# Altium schematic symbol library czc.SchLib: 62 symbols
Pins are listed as number, name and electrical type; pins without a type are passive.

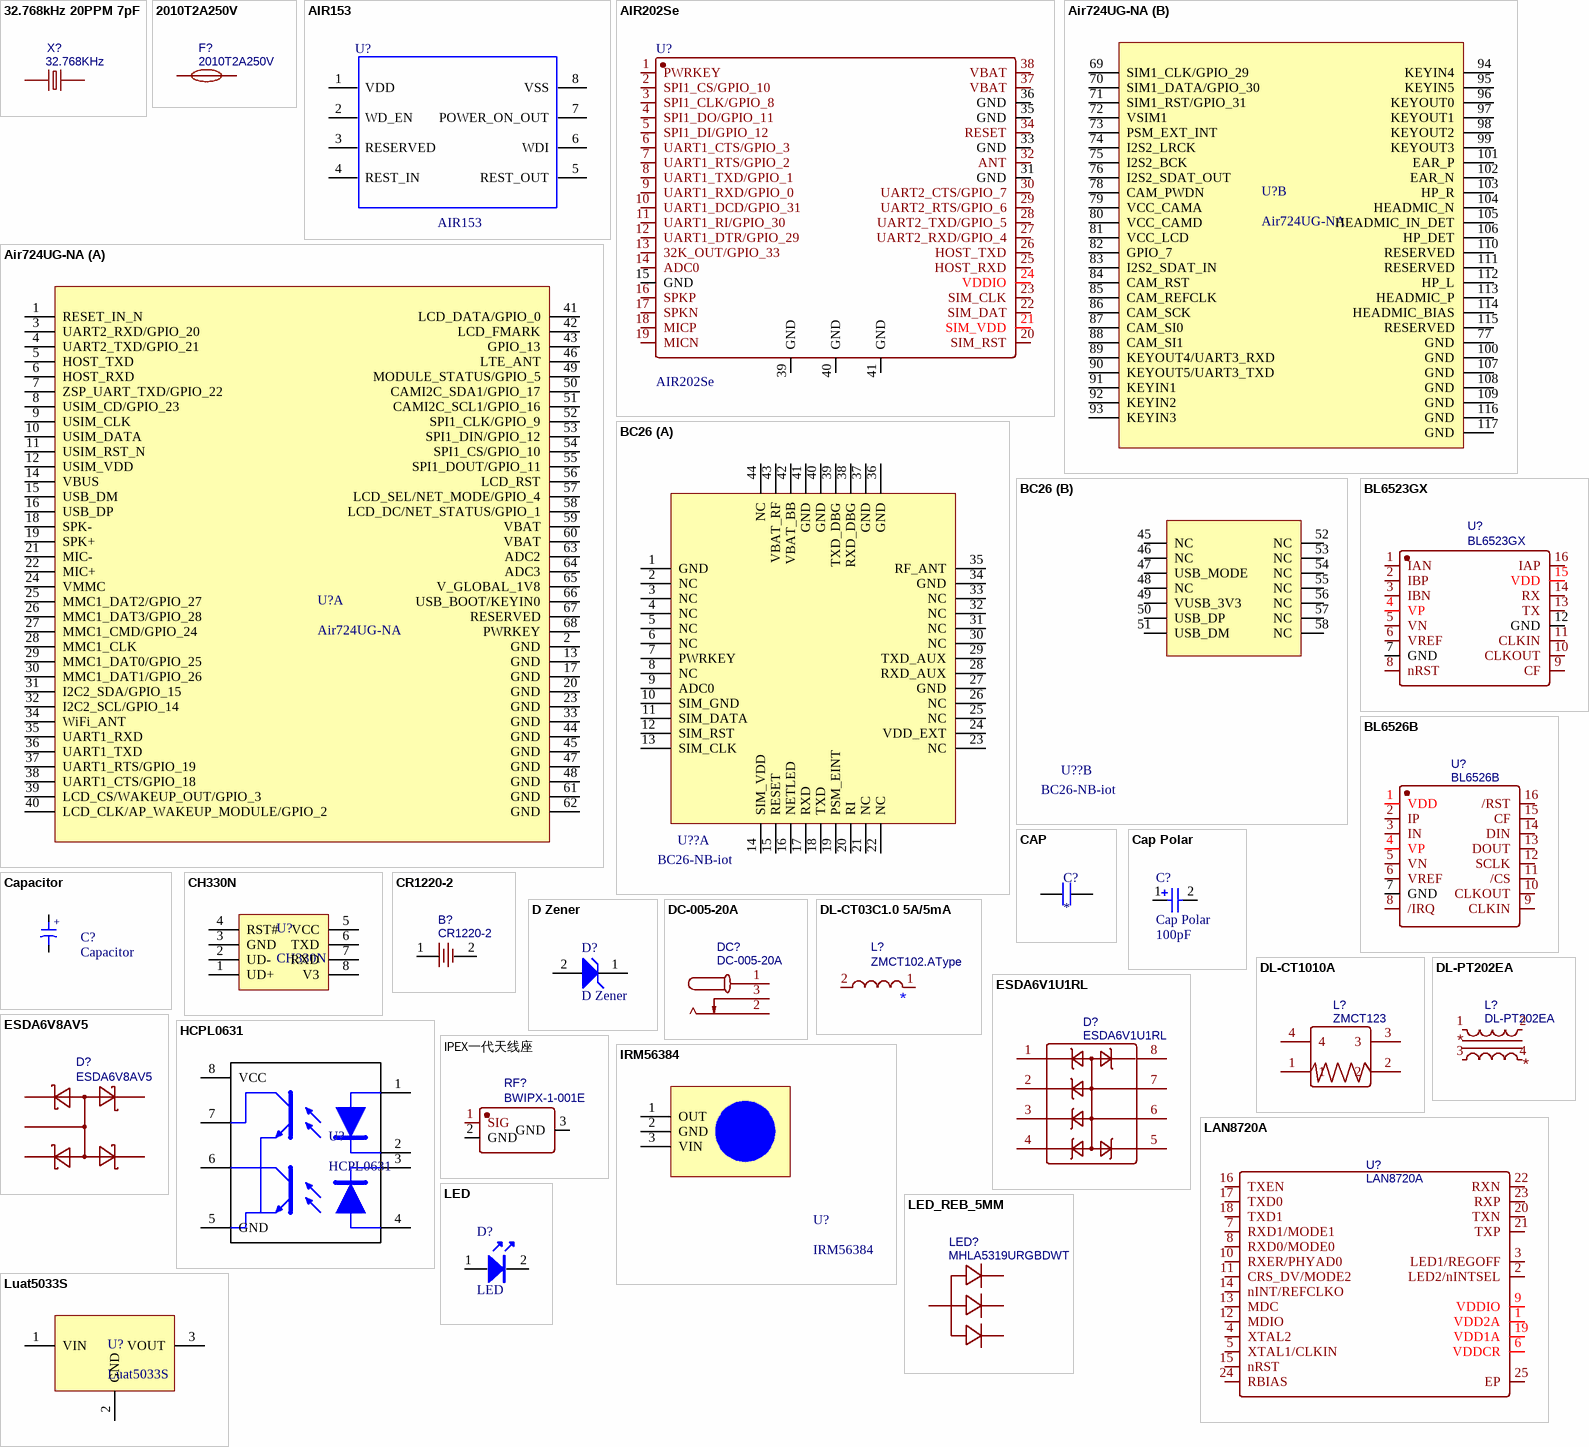
[diagram p0: symbols 32.768kHz 20PPM 7pF to Luat5033S]

## 32.768kHz 20PPM 7pF
designator X?, comment 32.768KHz
BOM_Manufacturer: SEIKO; BOM_Manufacturer Part: SC-32S32.768kHz20PPM7pF; nameAlias: Frequency; BOM_Supplier: LCSC; BOM_Supplier Part: C97604; spicePre: X; spiceSymbolName: SC-32S32.768kHz20PPM7pF
footprint OSC-SMD_L3.2-W1.5
pins: 1, 2

## 2010T2A250V
designator F?
BOM_Manufacturer: Walter Elec; Contributor: LCSC; BOM_Supplier: LCSC; BOM_Supplier Part: C354902; BOM_Manufacturer Part: 2010T2A250V; spicePre: F; spiceSymbolName: 2010T2A250V
footprint FUSE-TH_L8.5-W4.0-P5.08-D0.6
pins: 1, 2

## AIR153
designator U?
合宙看门狗芯片; Manufacture: ELAN; PCB DECAL: EM78P153B-SOP8; Geometry.Height: 1.75mm
footprint so-8
pins: 1 VDD, 2 WD_EN, 3 RESERVED, 4 REST_IN, 5 REST_OUT, 6 WDI, 7 POWER_ON_OUT, 8 VSS

## AIR202Se
designator U?
合宙2G模块 带SIM卡
footprint AIR202S (Footprint not found)
pins: 1 PWRKEY, 2 SPI1_CS/GPIO_10, 3 SPI1_CLK/GPIO_8, 4 SPI1_DO/GPIO_11, 5 SPI1_DI/GPIO_12, 6 UART1_CTS/GPIO_3, 7 UART1_RTS/GPIO_2, 8 UART1_TXD/GPIO_1, 9 UART1_RXD/GPIO_0, 10 UART1_DCD/GPIO_31, 11 UART1_RI/GPIO_30, 12 UART1_DTR/GPIO_29, 13 32K_OUT/GPIO_33, 14 ADC0, 15 GND, 16 SPKP, 17 SPKN, 18 MICP, 19 MICN, 20 SIM_RST, 21 SIM_VDD, 22 SIM_DAT, 23 SIM_CLK, 24 VDDIO, 25 HOST_RXD, 26 HOST_TXD, 27 UART2_RXD/GPIO_4, 28 UART2_TXD/GPIO_5, 29 UART2_RTS/GPIO_6, 30 UART2_CTS/GPIO_7, 31 GND, 32 ANT, 33 GND, 34 RESET, 35 GND, 36 GND, 37 VBAT, 38 VBAT, 39 GND, 40 GND, 41 GND

## Air724UG-NA
designator U?
合宙4G模块 不带SIM卡
part A pins: 1 RESET_IN_N, 2 GND, 3 UART2_RXD/GPIO_20, 4 UART2_TXD/GPIO_21, 5 HOST_TXD, 6 HOST_RXD, 7 ZSP_UART_TXD/GPIO_22, 8 USIM_CD/GPIO_23, 9 USIM_CLK, 10 USIM_DATA, 11 USIM_RST_N, 12 USIM_VDD, 13 GND, 14 VBUS, 15 USB_DM, 16 USB_DP, 17 GND, 18 SPK-, 19 SPK+, 20 GND, 21 MIC-, 22 MIC+, 23 GND, 24 VMMC, 25 MMC1_DAT2/GPIO_27, 26 MMC1_DAT3/GPIO_28, 27 MMC1_CMD/GPIO_24, 28 MMC1_CLK, 29 MMC1_DAT0/GPIO_25, 30 MMC1_DAT1/GPIO_26, 31 I2C2_SDA/GPIO_15, 32 I2C2_SCL/GPIO_14, 33 GND, 34 WiFi_ANT, 35 UART1_RXD, 36 UART1_TXD, 37 UART1_RTS/GPIO_19, 38 UART1_CTS/GPIO_18, 39 LCD_CS/WAKEUP_OUT/GPIO_3, 40 LCD_CLK/AP_WAKEUP_MODULE/GPIO_2, 41 LCD_DATA/GPIO_0, 42 LCD_FMARK, 43 GPIO_13, 44 GND, 45 GND, 46 LTE_ANT, 47 GND, 48 GND, 49 MODULE_STATUS/GPIO_5, 50 CAMI2C_SDA1/GPIO_17, 51 CAMI2C_SCL1/GPIO_16, 52 SPI1_CLK/GPIO_9, 53 SPI1_DIN/GPIO_12, 54 SPI1_CS/GPIO_10, 55 SPI1_DOUT/GPIO_11, 56 LCD_RST, 57 LCD_SEL/NET_MODE/GPIO_4, 58 LCD_DC/NET_STATUS/GPIO_1, 59 VBAT, 60 VBAT, 61 GND, 62 GND, 63 ADC2, 64 ADC3, 65 V_GLOBAL_1V8, 66 USB_BOOT/KEYIN0, 67 RESERVED, 68 PWRKEY
part B pins: 69 SIM1_CLK/GPIO_29, 70 SIM1_DATA/GPIO_30, 71 SIM1_RST/GPIO_31, 72 VSIM1, 73 PSM_EXT_INT, 74 I2S2_LRCK, 75 I2S2_BCK, 76 I2S2_SDAT_OUT, 77 GND, 78 CAM_PWDN, 79 VCC_CAMA, 80 VCC_CAMD, 81 VCC_LCD, 82 GPIO_7, 83 I2S2_SDAT_IN, 84 CAM_RST, 85 CAM_REFCLK, 86 CAM_SCK, 87 CAM_SI0, 88 CAM_SI1, 89 KEYOUT4/UART3_RXD, 90 KEYOUT5/UART3_TXD, 91 KEYIN1, 92 KEYIN2, 93 KEYIN3, 94 KEYIN4, 95 KEYIN5, 96 KEYOUT0, 97 KEYOUT1, 98 KEYOUT2, 99 KEYOUT3, 100 GND, 101 EAR_P, 102 EAR_N, 103 HP_R, 104 HEADMIC_N, 105 HEADMIC_IN_DET, 106 HP_DET, 107 GND, 108 GND, 109 GND, 110 RESERVED, 111 RESERVED, 112 HP_L, 113 HEADMIC_P, 114 HEADMIC_BIAS, 115 RESERVED, 116 GND, 117 GND

## BC26
designator U??, comment BC26-NB-iot
footprint BC26
part A pins: 1 GND, 2 NC, 3 NC, 4 NC, 5 NC, 6 NC, 7 PWRKEY, 8 NC, 9 ADC0, 10 SIM_GND, 11 SIM_DATA, 12 SIM_RST, 13 SIM_CLK, 14 SIM_VDD, 15 RESET, 16 NETLED, 17 RXD, 18 TXD, 19 PSM_EINT, 20 RI, 21 NC, 22 NC, 23 NC, 24 VDD_EXT, 25 NC, 26 NC, 27 GND, 28 RXD_AUX, 29 TXD_AUX, 30 NC, 31 NC, 32 NC, 33 NC, 34 GND, 35 RF_ANT, 36 GND, 37 GND, 38 RXD_DBG, 39 TXD_DBG, 40 GND, 41 GND, 42 VBAT_BB, 43 VBAT_RF, 44 NC
part B pins: 45 NC, 46 NC, 47 USB_MODE, 48 NC, 49 VUSB_3V3, 50 USB_DP, 51 USB_DM, 52 NC, 53 NC, 54 NC, 55 NC, 56 NC, 57 NC, 58 NC

## BL6523GX
designator U?
BOM_Manufacturer: Shanghai Belling; Contributor: LCSC; SMT Type: Extend; BOM_Supplier: LCSC; BOM_Supplier Part: C213392; BOM_Manufacturer Part: BL6523GX; BOM_JLCPCB SMD: Yes; spicePre: U; spiceSymbolName: BL6523GX
footprint SOP-16_L10.3-W5.4-P1.27-LS7.8-BL
pins: 1 IAN, 2 IBP, 3 IBN, 4 VP, 5 VN, 6 VREF, 7 GND, 8 nRST, 9 CF, 10 CLKOUT, 11 CLKIN, 12 GND, 13 TX, 14 RX, 15 VDD, 16 IAP

## BL6526B
designator U?
BOM_Manufacturer: BL; Contributor: LCSC; SMT Type: Extend; BOM_Supplier: LCSC; BOM_Manufacturer Part: BL6526B; BOM_Supplier Part: C177781; BOM_LCSC Assembly: Yes; spicePre: U; spiceSymbolName: BL6526B
footprint SOP-16_L10.0-W3.9-P1.27-LS6.0-BL
pins: 1 VDD, 2 IP, 3 IN, 4 VP, 5 VN, 6 VREF, 7 GND, 8 /IRQ, 9 CLKIN, 10 CLKOUT, 11 /CS, 12 SCLK, 13 DOUT, 14 DIN, 15 CF, 16 /RST

## CAP
designator C?
电容
pins: 1, 2

## Cap Polar
designator C?  value 100pF
极性电容; Published: 8-Jun-2000; LatestRevisionDate: 17-Jul-2002; LatestRevisionNote: Re-released for DXP Platform.; PackageReference: RB7.6-15; Publisher: Altium Limited; PackageDescription: Polarized Capacitor (Radial); 2 Leads
footprint RB7.6-15 (Polarized Capacitor (Radial); 2 Leads)
simulation model CAP (Capacitor)
signal-integrity model Cap Pol
pins: 1, 2
1 alternate drawing of the same symbol

## Capacitor
designator C?
电解电容
pins: 1, 2
text: +

## CH330N
designator U?
串口转USB芯片
pins: 1 UD+, 2 UD-, 3 GND, 4 RST#, 5 VCC, 6 TXD, 7 RXD, 8 V3

## CR1220-2
designator B?
BOM_Manufacturer: Q&J; BOM_Supplier: LCSC; BOM_Manufacturer Part: CR1220-2; image: //image.lceda.cn/szlcsc/C70381.jpg; BOM_Supplier Part: C70381; spicePre: B; spiceSymbolName: CR1220-2
footprint BAT-SMD_CR1220-2
pins: 1, 2

## D Zener
designator D?
稳压二极管; Published: 8-Jun-2000; LatestRevisionDate: 17-Jul-2002; LatestRevisionNote: Re-released for DXP Platform.; PackageReference: DIODE-0.7; Publisher: Altium Limited; PackageDescription: Diode, Thru-Hole; 2 Leads; 0.7 in Pin Spacing
footprint DIODE-0.7 (Diode, Thru-Hole; 2 Leads; 0.7 in Pin Spacing)
simulation model ZENER (Diode)
signal-integrity model D Zener
pins: 1, 2

## DC-005-20A
designator DC?
BOM_Manufacturer: HRO; Contributor: LCSC; BOM_Supplier: LCSC; BOM_Manufacturer Part: DC-005-20A; BOM_Supplier Part: C130239; spicePre: D; spiceSymbolName: DC-005-20A
footprint DC-IN-TH_DC005
pins: 1, 2, 3

## DL-CT03C1.0 5A/5mA
designator L?, comment ZMCT102.AType
BOM_Manufacturer: ZEMING; nameAlias: Value; SMT Type: Extend; BOM_Supplier: LCSC; BOM_Manufacturer Part: ZMCT102; BOM_Supplier Part: C84213; BOM_JLCPCB SMD: Yes; spicePre: L; spiceSymbolName: ZMCT102
footprint XFMR-TH_ZMCT102
pins: 1, 2

## DL-CT1010A
designator L?, comment ZMCT123
BOM_Manufacturer: ZEMING; Contributor: LCSC; SMT Type: Extend; BOM_Supplier: LCSC; BOM_Manufacturer Part: ZMCT123; BOM_Supplier Part: C155201; BOM_JLCPCB SMD: Yes; spicePre: L; spiceSymbolName: ZMCT123
footprint XFMR-TH_ZMCT123
pins: 1, 2, 3, 4

## DL-PT202EA
designator L?
BOM_Manufacturer: ZEMING; BOM_Manufacturer Part: ZMPT107-1; nameAlias: Value; BOM_Supplier: LCSC; BOM_Supplier Part: C125191; spicePre: L; spiceSymbolName: ZMPT107-1
footprint XFMR-TH_ZMPT107-1
pins: 1, 2, 3, 4

## ESDA6V1U1RL
designator D?
BOM_Manufacturer: STMicroelectronics; Contributor: LCSC; SMT Type: Extend; BOM_Supplier: LCSC; BOM_Manufacturer Part: ESDA6V1U1RL; BOM_Supplier Part: C118278; BOM_LCSC Assembly: Yes; spicePre: D; spiceSymbolName: ESDA6V1U1RL
footprint SO-8_L4.9-W3.9-P1.27-LS5.9-BL
pins: 1 I/O1, 2 I/O2, 3 I/O3, 4 I/O4, 5 I/O5, 6 GND, 7 GND, 8 I/O6

## ESDA6V8AV5
designator D?
BOM_Manufacturer: Will Semicon; Contributor: LCSC; BOM_Paste Type: expand; BOM_Assembly Type: smtWeld; BOM_Supplier: LCSC; BOM_Supplier Part: C268741; BOM_Manufacturer Part: ESDA6V8AV5; spicePre: D; spiceSymbolName: ESDA6V8AV5
footprint SOT-553-5_L1.6-W1.2-P0.50-LS1.6-BR
pins: 1 I/O1, 2 GND, 3 I/O2, 4 I/O3, 5 I/O4

## HCPL0631
designator U?
光耦
pins: 1, 2, 3, 4, 5 GND, 6, 7, 8 VCC

## IPEX一代天线座
designator RF?, comment BWIPX-1-001E
BOM_Manufacturer: BAT WIRELESS(蝙蝠无线); Contributor: LCSC; BOM_Paste Type: expand; BOM_Assembly Type: smtWeld; BOM_Supplier: LCSC; BOM_Supplier Part: C496552; BOM_Manufacturer Part: BWIPX-1-001E; spicePre: R; spiceSymbolName: BWIPX-1-001E
footprint IPEX-SMD_BWIPX-1-001E
pins: 1 SIG, 2 GND, 3 GND

## IRM56384
designator U?
红外接收模块
pins: 1 OUT, 2 GND, 3 VIN

## LAN8720A
designator U?
BOM_Manufacturer: SMSC; BOM_Manufacturer Part: LAN8720AI-CP-TR; SMT Type: Extend; BOM_Supplier: LCSC; image: //image.lceda.cn/szlcsc/C17146.jpg; BOM_Supplier Part: C17146; BOM_LCSC Assembly: Yes; spicePre: U; spiceSymbolName: LAN8720AI-CP-TR
footprint QFN-24_L4.0-W4.0-P0.50-BL-EP2.6
pins: 1 VDD2A, 2 LED2/nINTSEL, 3 LED1/REGOFF, 4 XTAL2, 5 XTAL1/CLKIN, 6 VDDCR, 7 RXD1/MODE1, 8 RXD0/MODE0, 9 VDDIO, 10 RXER/PHYAD0, 11 CRS_DV/MODE2, 12 MDIO, 13 MDC, 14 nINT/REFCLKO, 15 nRST, 16 TXEN, 17 TXD0, 18 TXD1, 19 VDD1A, 20 TXN, 21 TXP, 22 RXN, 23 RXP, 24 RBIAS, 25 EP

## LED
designator D?
LED灯
footprint LEDD3
pins: 1, 2

## LED_REB_5MM
designator LED?, comment MHLA5319URGBDWT
BOM_Manufacturer: MEIHUA; Contributor: LCSC; SMT Type: Extend; BOM_Supplier: LCSC; BOM_Supplier Part: C417349; BOM_Manufacturer Part: MHLA5319URGBDWT; BOM_JLCPCB SMD: Yes; spicePre: L; spiceSymbolName: MHLA5319URGBDWT
footprint LED-TH_4P-BD6.9-P1.27-R
pins: 1 -, 2 +, 3 -, 4 -

## Luat5033S
designator U?
合宙电源模块
pins: 1 VIN, 2 GND, 3 VOUT

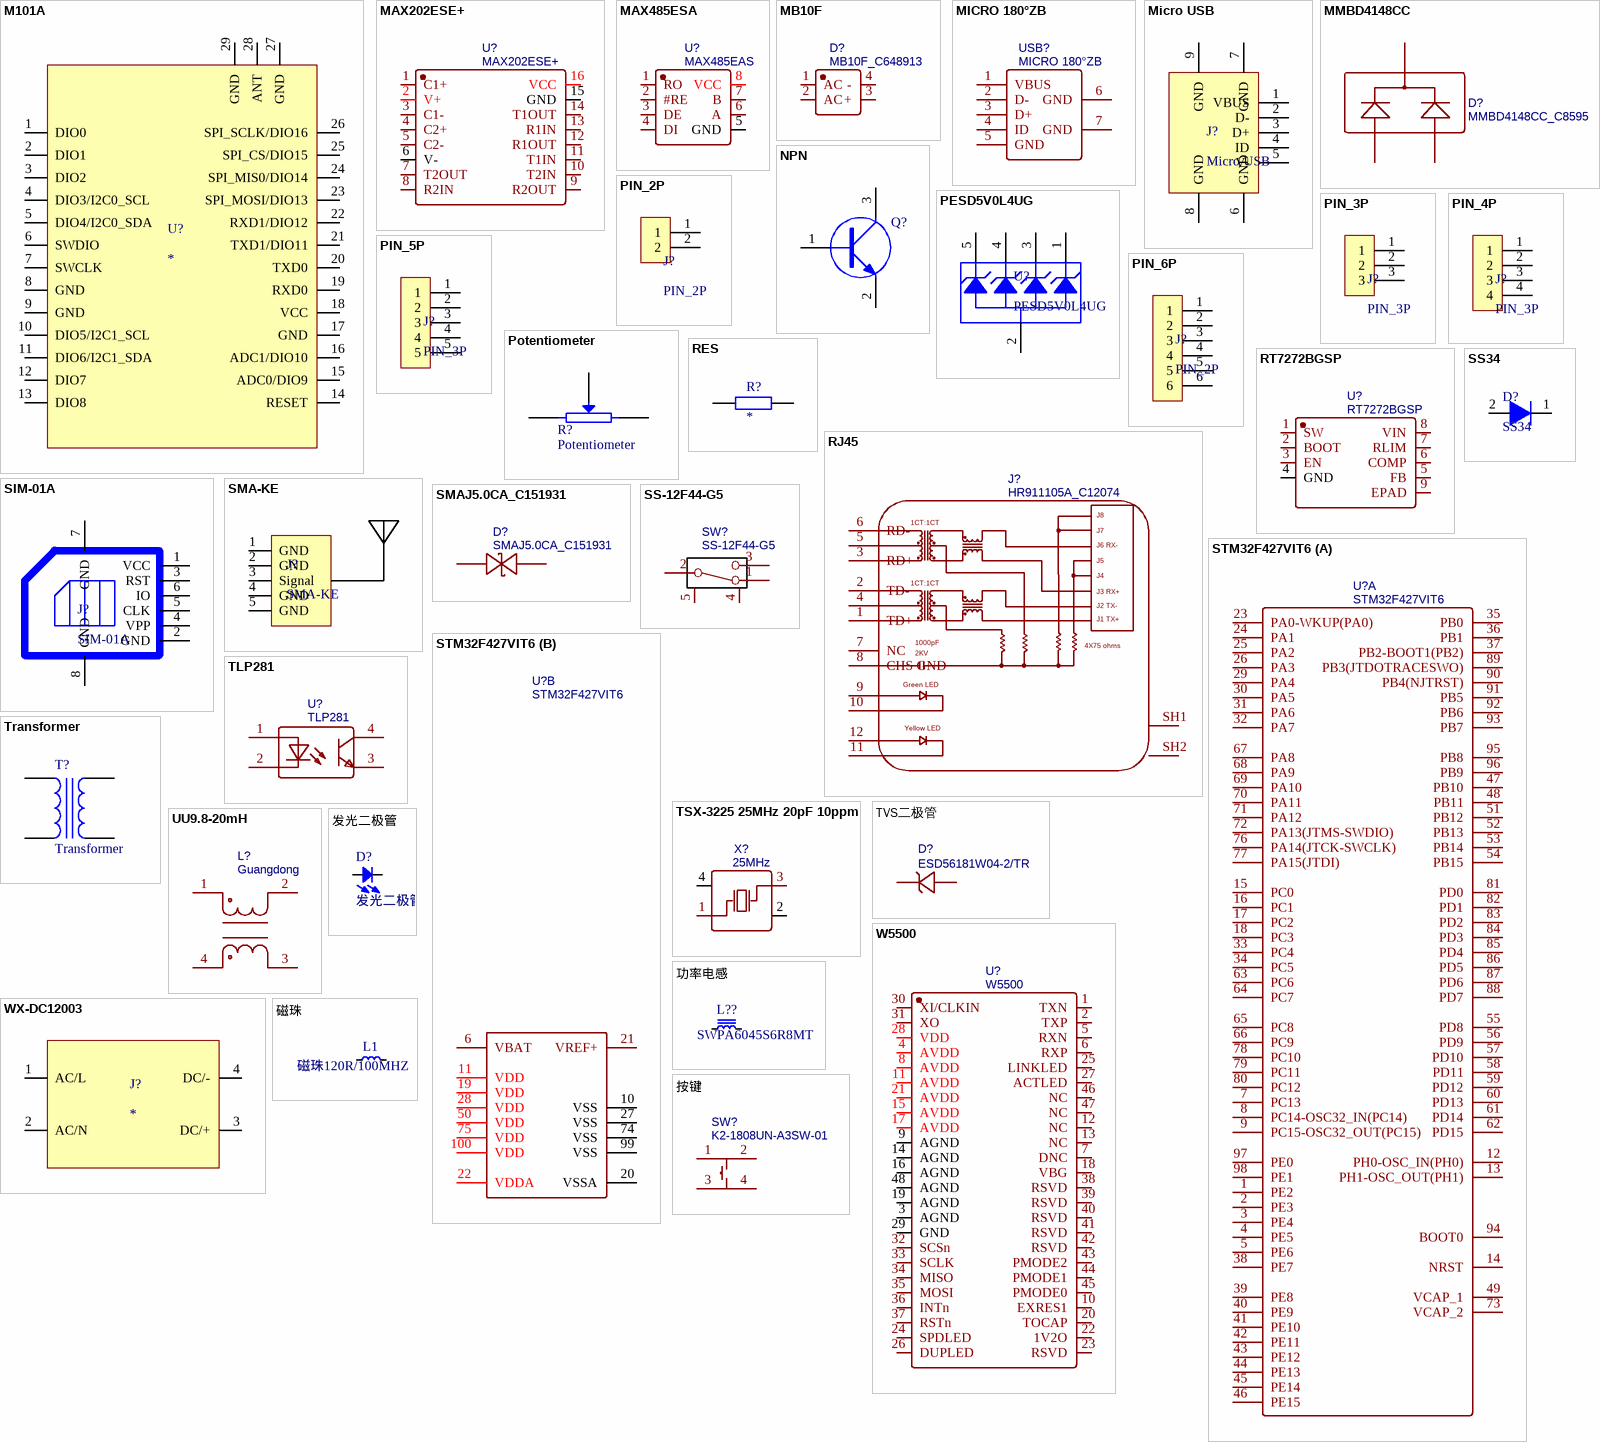
[diagram p1: symbols M101A to 磁珠]

## M101A
designator U?
pins: 1 DIO0, 2 DIO1, 3 DIO2, 4 DIO3/I2C0_SCL, 5 DIO4/I2C0_SDA, 6 SWDIO, 7 SWCLK, 8 GND, 9 GND, 10 DIO5/I2C1_SCL, 11 DIO6/I2C1_SDA, 12 DIO7, 13 DIO8, 14 RESET, 15 ADC0/DIO9, 16 ADC1/DIO10, 17 GND, 18 VCC, 19 RXD0, 20 TXD0, 21 TXD1/DIO11, 22 RXD1/DIO12, 23 SPI_MOSI/DIO13, 24 SPI_MIS0/DIO14, 25 SPI_CS/DIO15, 26 SPI_SCLK/DIO16, 27 GND, 28 ANT, 29 GND

## MAX202ESE+
designator U?
BOM_Manufacturer: Maxim Integrated; Contributor: LCSC; BOM_Supplier: LCSC; BOM_Supplier Part: C143388; BOM_Manufacturer Part: MAX202ESE+; spicePre: U; spiceSymbolName: MAX202ESE+
footprint SO-16_L9.9-W3.9-P1.27-LS6.0-BL
pins: 1 C1+, 2 V+, 3 C1-, 4 C2+, 5 C2-, 6 V-, 7 T2OUT, 8 R2IN, 9 R2OUT, 10 T2IN, 11 T1IN, 12 R1OUT, 13 R1IN, 14 T1OUT, 15 GND, 16 VCC

## MAX485ESA
designator U?, comment MAX485EAS
BOM_Manufacturer: UMW(Youtai Semiconductor Co., Ltd.); Contributor: LCSC; BOM_Supplier: LCSC; BOM_Supplier Part: C668206; BOM_Manufacturer Part: MAX485EAS; spicePre: U; spiceSymbolName: MAX485EAS
footprint SOP-8_L5.0-W4.0-P1.27-LS6.0-BL
pins: 1 RO, 2 #RE, 3 DE, 4 DI, 5 GND, 6 A, 7 B, 8 VCC

## MB10F
designator D?, comment MB10F_C648913
BOM_Manufacturer: FMS(Formosa Microsemi); BOM_Manufacturer Part: MB10F; Contributor: LCSC; SMT Type: Extend; BOM_Supplier: LCSC; BOM_Supplier Part: C648913; BOM_JLCPCB SMD: Yes; spicePre: D; spiceSymbolName: MB10F_C648913
footprint MBF_L4.8-W3.9-P2.50-LS6.7-BL
pins: 1 AC, 2 AC, 3 +, 4 -

## MICRO 180°ZB
designator USB?
BOM_Manufacturer: SHOU HAN; Contributor: LCSC; BOM_Supplier: LCSC; BOM_Supplier Part: C668588; BOM_Manufacturer Part: MICRO 180°ZB; spicePre: U; spiceSymbolName: MICRO 180°ZB
footprint MICRO-USB-TH_MICRO-180°ZB
pins: 1 VBUS, 2 D-, 3 D+, 4 ID, 5 GND, 6 GND, 7 GND

## Micro USB
designator J?
Micro USB接口
pins: 1 VBUS, 2 D-, 3 D+, 4 ID, 5 V-, 6 GND, 7 GND, 8 GND, 9 GND

## MMBD4148CC
designator D?, comment MMBD4148CC_C8595
BOM_Manufacturer: CJ; SMT Type: Extend; BOM_Supplier: LCSC; BOM_Manufacturer Part: MMBD4148CC; image: //image.lceda.cn/szlcsc/C8595.jpg; BOM_Supplier Part: C8595; BOM_LCSC Assembly: Yes; spicePre: D; spiceSymbolName: MMBD4148CC_C8595
footprint SOT-23-3_L2.9-W1.6-P1.90-LS2.8-BR
pins: 1, 2, 3

## NPN
designator Q?
NPN三极管
footprint SOT-23
pins: 1 B, 2 E, 3 C

## PESD5V0L4UG
designator U?
pins: 1, 2, 3, 4, 5

## PIN_2P
designator J?
pins: 1, 2

## PIN_3P
designator J?
pins: 1, 2, 3

## PIN_4P
designator J?, comment PIN_3P
pins: 1, 2, 3, 4

## PIN_5P
designator J?, comment PIN_3P
pins: 1, 2, 3, 4, 5

## PIN_6P
designator J?, comment PIN_2P
pins: 1, 2, 3, 4, 5, 6

## Potentiometer
designator R?
电位器
footprint VR
pins: 1, 2, 3 W

## RES
designator R?
电阻; ComponentLink1Description: New link; ComponentLink1URL: *; ComponentLink2Description: New link; ComponentLink2URL: *
pins: 1, 2

## RJ45
designator J?, comment HR911105A_C12074
BOM_Manufacturer: HANRUN; BOM_Supplier: LCSC; BOM_Manufacturer Part: HR911105A; image: //image.lceda.cn/szlcsc/C12074.jpg; BOM_Supplier Part: C12074; spicePre: J; spiceSymbolName: HR911105A_C12074
footprint RJ45-TH_HR911105A
pins: 1 TD+, 2 TD-, 3 RD+, 4, 5, 6 RD-, 7 NC, 8 CHS GND, 9, 10, 11, 12, SH1, SH2
text: J8; 1CT:1CT; J7; J6 RX-; J5; J4; J3 RX+; J2 TX-; J1 TX+; 1000pF; 4X75 ohms; 2KV; Green LED; Yellow LED

## RT7272BGSP
designator U?
BOM_Manufacturer: Richtek Tech; Contributor: LCSC; SMT Type: Extend; BOM_Supplier: LCSC; BOM_Supplier Part: C127866; BOM_Manufacturer Part: RT7272BGSP; BOM_LCSC Assembly: Yes; spicePre: U; spiceSymbolName: RT7272BGSP
footprint SOIC-8_L5.0-W4.0-P1.27-LS6.0-BL-EP
pins: 1 SW, 2 BOOT, 3 EN, 4 GND, 5 FB, 6 COMP, 7 RLIM, 8 VIN, 9 EPAD

## SIM-01A
designator J?
SIM卡座
pins: 1 VCC, 2 GND, 3 RST, 4 VPP, 5 CLK, 6 IO, 7 GND, 8 GND

## SMA-KE
designator J?
天线 90°折角
pins: 1 GND, 2 GND, 3 Signal, 4 GND, 5 GND

## SMAJ5.0CA_C151931
designator D?
BOM_Manufacturer: BORN; Contributor: LCSC; SMT Type: Extend; BOM_Supplier: LCSC; BOM_Manufacturer Part: SMAJ5.0CA; BOM_Supplier Part: C151931; BOM_LCSC Assembly: Yes; spicePre: D; spiceSymbolName: SMAJ5.0CA_C151931
footprint SMA_L4.4-W2.6-LS5.0-BI
pins: 1, 2

## SS34
designator D?
二极管
pins: 1, 2

## SS-12F44-G5
designator SW?
BOM_Manufacturer: Rectangular Connectors - Contacts; Contributor: LCSC; BOM_Supplier: LCSC; BOM_Supplier Part: C136718; BOM_Manufacturer Part: SS-12F44-G5; spicePre: S; spiceSymbolName: SS-12F44-G5
footprint SW-TH_SS-12F44-G5
pins: 1, 2, 3, 4, 5

## STM32F427VIT6
designator U?
BOM_Manufacturer: STMicroelectronics; subpart_no: 2; BOM_Supplier Part: C57097; BOM_Supplier: LCSC; BOM_Manufacturer Part: STM32F427VIT6; spicePre: U; spiceSymbolName: STM32F427VIT6
footprint LQFP-100_L14.0-W14.0-P0.50-LS16.0-BL
part A pins: 1 PE2, 2 PE3, 3 PE4, 4 PE5, 5 PE6, 7 PC13, 8 PC14-OSC32_IN(PC14), 9 PC15-OSC32_OUT(PC15), 12 PH0-OSC_IN(PH0), 13 PH1-OSC_OUT(PH1), 14 NRST, 15 PC0, 16 PC1, 17 PC2, 18 PC3, 23 PA0-WKUP(PA0), 24 PA1, 25 PA2, 26 PA3, 29 PA4, 30 PA5, 31 PA6, 32 PA7, 33 PC4, 34 PC5, 35 PB0, 36 PB1, 37 PB2-BOOT1(PB2), 38 PE7, 39 PE8, 40 PE9, 41 PE10, 42 PE11, 43 PE12, 44 PE13, 45 PE14, 46 PE15, 47 PB10, 48 PB11, 49 VCAP_1, 51 PB12, 52 PB13, 53 PB14, 54 PB15, 55 PD8, 56 PD9, 57 PD10, 58 PD11, 59 PD12, 60 PD13, 61 PD14, 62 PD15, 63 PC6, 64 PC7, 65 PC8, 66 PC9, 67 PA8, 68 PA9, 69 PA10, 70 PA11, 71 PA12, 72 PA13(JTMS-SWDIO), 73 VCAP_2, 76 PA14(JTCK-SWCLK), 77 PA15(JTDI), 78 PC10, 79 PC11, 80 PC12, 81 PD0, 82 PD1, 83 PD2, 84 PD3, 85 PD4, 86 PD5, 87 PD6, 88 PD7, 89 PB3(JTDOTRACESWO), 90 PB4(NJTRST), 91 PB5, 92 PB6, 93 PB7, 94 BOOT0, 95 PB8, 96 PB9, 97 PE0, 98 PE1
part B pins: 6 VBAT, 10 VSS, 11 VDD, 19 VDD, 20 VSSA, 21 VREF+, 22 VDDA, 27 VSS, 28 VDD, 50 VDD, 74 VSS, 75 VDD, 99 VSS, 100 VDD

## TLP281
designator U?
BOM_Manufacturer: Isocom Components; Contributor: LCSC; BOM_Supplier: LCSC; BOM_Supplier Part: C433437; BOM_Manufacturer Part: TLP281; spicePre: U; spiceSymbolName: TLP281
footprint SMD-4_L2.7-W4.4-P1.27-LS7.0-BL
pins: 1, 2, 3, 4

## Transformer
designator T?
变压器
pins: 1, 2, 3, 4

## TSX-3225 25MHz 20pF 10ppm
designator X?, comment 25MHz
BOM_Manufacturer: EPSON; BOM_Manufacturer Part: X1E0000210352000G; nameAlias: Frequency; SMT Type: Extend; BOM_Supplier: LCSC; BOM_Supplier Part: C91738; BOM_LCSC Assembly: Yes; spicePre: X; spiceSymbolName: X1E0000210352000G
footprint OSC-SMD_4P-L3.2-W2.5-BL
pins: 1 OSC1, 2 GND, 3 OSC2, 4 GND

## TVS二极管
designator D?, comment ESD56181W04-2/TR
BOM_Manufacturer: WILLSEMI(Will Semicon); Contributor: LCSC; BOM_Supplier: LCSC; BOM_Supplier Part: C910982; BOM_Manufacturer Part: ESD56181W04-2/TR; spicePre: D; spiceSymbolName: ESD56181W04-2/TR
footprint SOD-323_L1.8-W1.3-LS2.5-RD
pins: 1 K, 2 A

## UU9.8-20mH
designator L?, comment Guangdong
BOM_Manufacturer: Guangdong Fenghua Advanced Tech; BOM_Manufacturer Part: UU9.8-20mH; nameAlias: Value; Contributor: LCSC; BOM_Supplier: LCSC; BOM_Supplier Part: C164623; spicePre: L; spiceSymbolName: UU9.8-20MH
footprint FILTER-TH_4P-L17.0-W12.0-P7.00-D0.6-S8.00
pins: 1, 2, 3, 4

## W5500
designator U?
BOM_Manufacturer: WIZNET; SMT Type: Basic; BOM_Supplier: LCSC; BOM_Manufacturer Part: W5500; image: //image.lceda.cn/szlcsc/C32843.jpg; BOM_Supplier Part: C32843; BOM_JLCPCB SMD: Yes; spicePre: U; spiceSymbolName: W5500
footprint LQFP-48_L7.0-W7.0-P0.50-LS9.0-BL
pins: 1 TXN, 2 TXP, 3 AGND, 4 AVDD, 5 RXN, 6 RXP, 7 DNC, 8 AVDD, 9 AGND, 10 EXRES1, 11 AVDD, 12 NC, 13 NC, 14 AGND, 15 AVDD, 16 AGND, 17 AVDD, 18 VBG, 19 AGND, 20 TOCAP, 21 AVDD, 22 1V2O, 23 RSVD, 24 SPDLED, 25 LINKLED, 26 DUPLED, 27 ACTLED, 28 VDD, 29 GND, 30 XI/CLKIN, 31 XO, 32 SCSn, 33 SCLK, 34 MISO, 35 MOSI, 36 INTn, 37 RSTn, 38 RSVD, 39 RSVD, 40 RSVD, 41 RSVD, 42 RSVD, 43 PMODE2, 44 PMODE1, 45 PMODE0, 46 NC, 47 NC, 48 AGND

## WX-DC12003
designator J?
pins: 1 AC/L, 2 AC/N, 3 DC/+, 4 DC/-

## 功率电感
designator L??, comment SWPA6045S6R8MT
footprint SDRH6D45
pins: 1, 2

## 发光二极管
designator D?
footprint LED0603
pins: 1, 2

## 按键
designator SW?, comment K2-1808UN-A3SW-01
BOM_Manufacturer: Korean Hroparts Elec; Contributor: LCSC; BOM_Supplier: LCSC; BOM_Supplier Part: C502306; BOM_Manufacturer Part: K2-1808UN-A3SW-01; spicePre: S; spiceSymbolName: K2-1808UN-A3SW-01
footprint KEY-SMD_4P-L4.2-W3.25-P2.15-TL
pins: 1, 2, 3, 4

## 磁珠
designator L1, comment 磁珠120R/100MHZ
磁珠
footprint 0603L
footprint 0805L
footprint 1206L
footprint 1812L
pins: 1, 2